# EAGLE library part CDCLVP110 (library NewSDR)
Texas Instruments Low-Voltage 1:10 LVPECL/HSTL With Selectable Input Clock Driver
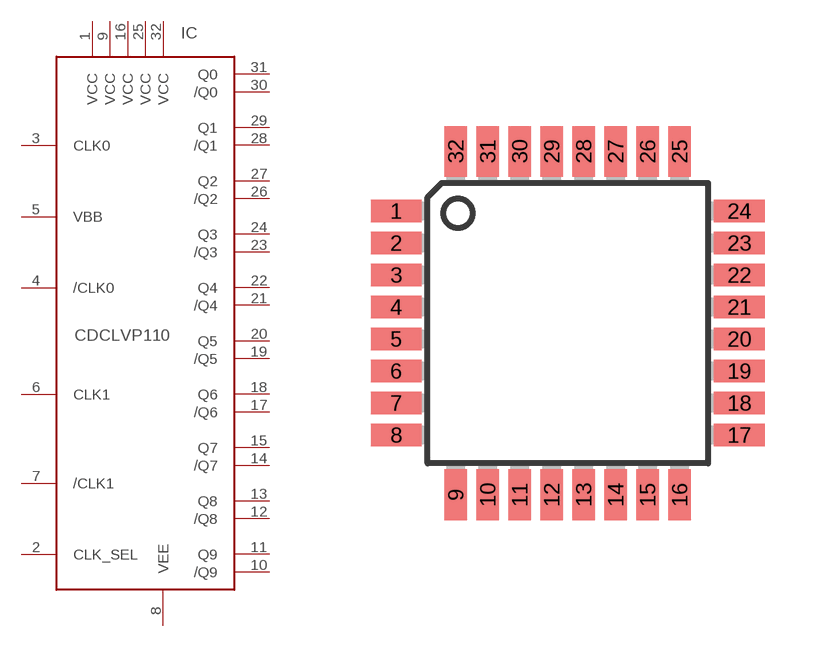
[diagram p28: symbol with the pads of TQFP32-08; footprint TQFP32-08]

Designator prefix IC

## CDCLVP110  [TQFP32-08]
1  VCC  pwr
2  CLK_SEL  in
3  CLK0  in
4  /CLK0  in
5  VBB
6  CLK1  in
7  /CLK1  in
8  VEE  pwr
9  VCC  pwr
10  /Q9  out
11  Q9  out
12  /Q8  out
13  Q8  out
14  /Q7  out
15  Q7  out
16  VCC  pwr
17  /Q6  out
18  Q6  out
19  /Q5  out
20  Q5  out
21  /Q4  out
22  Q4  out
23  /Q3  out
24  Q3  out
25  VCC  pwr
26  /Q2  out
27  Q2  out
28  /Q1  out
29  Q1  out
30  /Q0  out
31  Q0  out
32  VCC  pwr

## Footprint TQFP32-08 (pad centres in mm)
Thin Plasic Quad Flat Package Grid 0.8 mm
smd 1.27 x 0.559: 1 -4.293,2.8; 2 -4.293,2; 3 -4.293,1.2; 4 -4.293,0.4; 5 -4.293,-0.4; 6 -4.293,-1.2; 7 -4.293,-2; 8 -4.293,-2.8; 17 4.293,-2.8; 18 4.293,-2; 19 4.293,-1.2; 20 4.293,-0.4; 21 4.293,0.4; 22 4.293,1.2; 23 4.293,2; 24 4.293,2.8
smd 0.559 x 1.27: 9 -2.8,-4.293; 10 -2,-4.293; 11 -1.2,-4.293; 12 -0.4,-4.293; 13 0.4,-4.293; 14 1.2,-4.293; 15 2,-4.293; 16 2.8,-4.293; 25 2.8,4.293; 26 2,4.293; 27 1.2,4.293; 28 0.4,4.293; 29 -0.4,4.293; 30 -1.2,4.293; 31 -2,4.293; 32 -2.8,4.293